# Altium schematic symbol library displaySolderstation.SchLib: 7 symbols
Pins are listed as number, name and electrical type; pins without a type are passive.

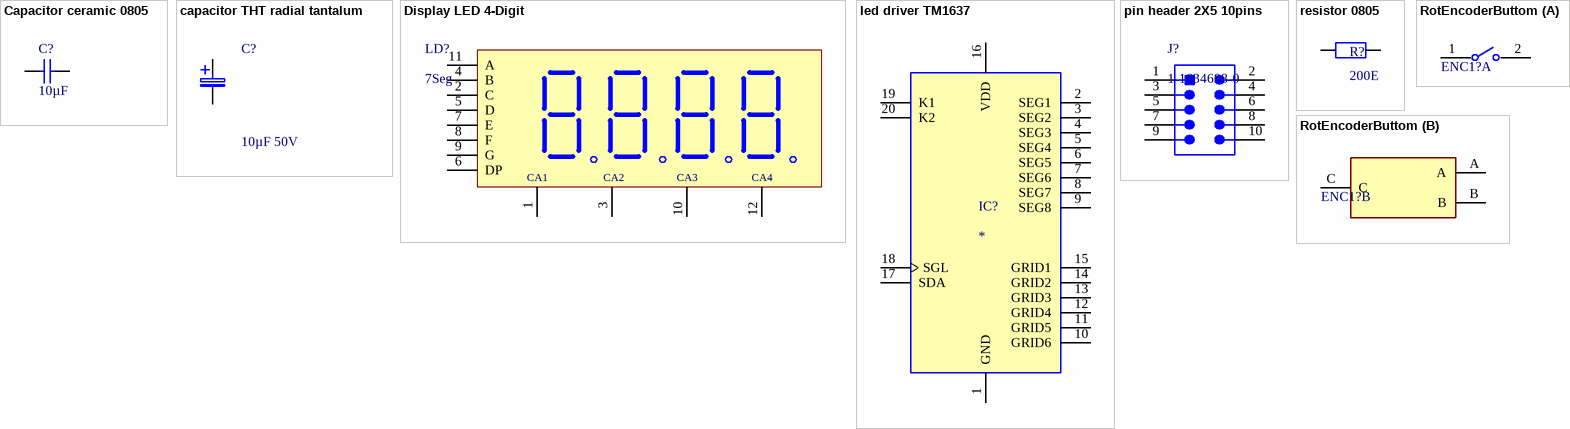
[diagram p0: symbols Capacitor ceramic 0805 to RotEncoderButtom]

## Capacitor ceramic 0805
designator C?, comment 10µF
Manufacturer: Kemet; Part Number: C0402C104K4RACTU
footprint CAPC2012X88N
pins: 1, 2
1 alternate drawing of the same symbol

## capacitor THT radial tantalum
designator C?, comment 10µF 50V
Tantalum Capacitors - Solid Leaded 50V 10uF 20% ESR=1.6 Ohm TAP106M050BRW; Manufacturer_Name: Kyocera AVX; Geometry.Height: 15.5mm; Mouser Part Number: 581-TAP106M050BRW; Mouser Price/Stock: https://www.mouser.co.uk/ProductDetail/AVX/TAP106M050BRW?qs=GjEaAqXp9rZGx11KfVU76g%3D%3D; Manufacturer_Part_Number: TAP106M050BRW; Datasheet Link: https://www.mouser.be/datasheet/2/40/tap-776819.pdf
footprint TAP106M050BRW
pins: 1, 2

## Display LED 4-Digit
designator LD?, comment 7Seg
4-Digit LED Display TME KW4-801AVB
footprint KW4-801AVB/KW4-801CVB (7_segent display)
pins: 1 CA1, 2 C, 3 13, 4 B, 5 D, 6 DP, 7 E, 8 F, 9 G, 10 14, 11 A, 12 15
text: CA2; CA3; CA4

## led driver TM1637
designator IC?
LED Drive Control Special Circuit; MF: Titan Micro Electronics; MP: TM1637; Package: Package; Availability: Not in stock; SnapEDA_Link: https://www.snapeda.com/parts/TM1637/Titan+Micro+Electronics/view-part/?ref=snap; Check_prices: https://www.snapeda.com/parts/TM1637/Titan+Micro+Electronics/view-part/?ref=eda; Value: *; Price: None
footprint N-20 (DIP, 20-Leads, Row Spacing 7.62mm, Pitch 2.54mm, Body 25.9x6.6mm)
pins: 1 GND (power), 2 SEG1, 3 SEG2, 4 SEG3, 5 SEG4, 6 SEG5, 7 SEG6, 8 SEG7, 9 SEG8, 10 GRID6, 11 GRID5, 12 GRID4, 13 GRID3, 14 GRID2, 15 GRID1, 16 VDD (power), 17 SDA, 18 SGL, 19 K1, 20 K2

## pin header 2X5 10pins
designator J?, comment 1-1634688-0
CMP-2000-05854-1 Male Header, Pitch 2.54 mm, 2 x 5 Postion, Height 9.15 mm, Tail Length 3.2 mm, -40 to 105 degC, RoHS, Bulk; Manufacturer: TE Connectivity; No. of Rows: 2; SVHC: ToBeAdvised; Package Version: Rev. C2, 02/2011; No. of Contacts: 10Contacts; Pitch: 2.54mm; No. of Positions: 10; Contact Termination Type: ThroughHole; Package Description: 10-Pin Connector, Body 20.35 x 8.7 mm, Pitch 2.54 mm; Orientation: Straight; Gender: Header; Mounting Technology: ThroughHole; Product Range: -; PartNumber: 1-1634688-0; Datasheet Version: Rev. C2, 02/2011; Contact Material: Brass; Package URL: https://datasheet.ciiva.com/6831/eng-cd-1634688-c2-6831201.pdf; Package Reference: 1-1634688-0; Pitch Spacing: 2.54mm; Contact Plating: GoldPlatedContacts; Manufacturer URL: http://www.te.com/; Datasheet URL: https://datasheet.ciiva.com/6831/eng-cd-1634688-c2-6831201.pdf
footprint TECO-1-1634688-0-10_V (10-Pin Connector, Body 20.35x8.7mm, Pitch 2.54mm)
pins: 1, 2, 3, 4, 5, 6, 7, 8, 9, 10

## resistor 0805
designator R?, comment 200E
Manufacturer: Vishay Dale; Part Number: CRCW08050000Z0EA
footprint RESC2012X50N
pins: 1, 2
1 alternate drawing of the same symbol

## RotEncoderButtom
designator ENC1?, comment PEC11R-4220F-S0012  (value not drawn)
ROTARY ENCODER MECHANICAL 12PPR PEC11R-4220F-S0012; Built in Switch: Yes; Number of Channels: 2; Output Type: Quadrature; Hole Diameter: 7mm; Pulses per Revolution: 12; Termination: PC Pin; Package Quantity: 150; RoHS Compliant: Yes; Mount: Through Hole; Width: 12.5mm; Radiation Hardening: No; Number of Pins: 5; REACH SVHC: No SVHC; Type: Mechanical; Packaging: Bulk; Min Operating Temperature: -30°C; Encoder Type: Mechanical; Height: 13.4mm; Length: 26.5mm; Orientation: Vertical; Max Operating Temperature: 70°C; Series: PEC11R; Detent: Yes
footprint PEC11R_4220F_S0012
part A pins: 1, 2
part B pins: A, B, C